# Altium schematic symbol library SCH - CONNECTORS - CLIFF - FCR7350R.SCHLIB: 1 symbol
Pins are listed as number, name and electrical type; pins without a type are passive.

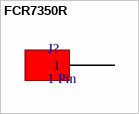
[diagram p0: symbol FCR7350R]

## FCR7350R
designator J?, comment 1 Pin
pins: 1